# EAGLE library part CINVESTAV_ATMEGA328 (library ijrobotics)
Atmega328 13 Entradas Digitales 7 Entradas Análogicas 6 PWM
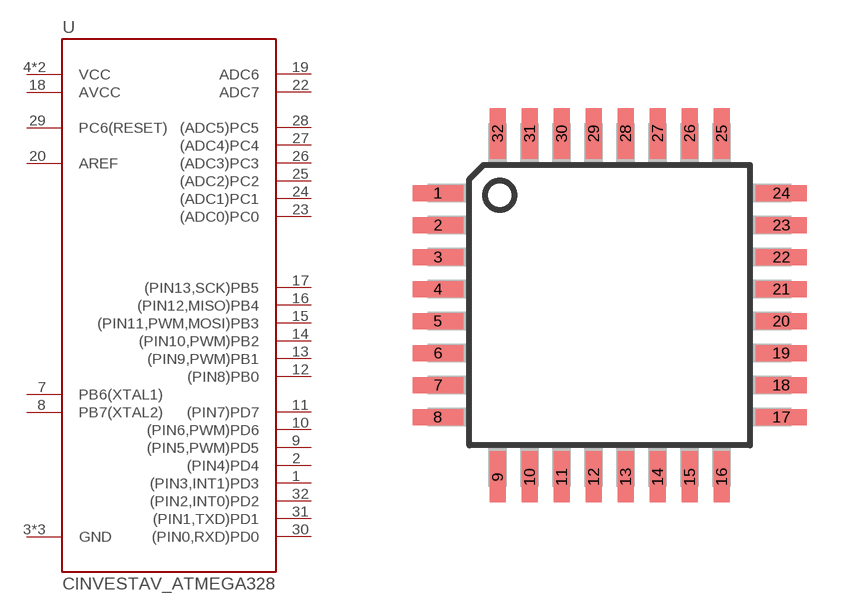
[diagram p14: symbol with the pads of CINVESTAV_TQFP32-08; footprint CINVESTAV_TQFP32-08]

Designator prefix -

## CINVESTAV_ATMEGA328  [CINVESTAV_TQFP32-08]
1  (PIN3,INT1)PD3
2  (PIN4)PD4
3  GND  pwr
4  VCC  pwr
5  GND  pwr
6  VCC  pwr
7  PB6(XTAL1)
8  PB7(XTAL2)
9  (PIN5,PWM)PD5
10  (PIN6,PWM)PD6
11  (PIN7)PD7
12  (PIN8)PB0
13  (PIN9,PWM)PB1
14  (PIN10,PWM)PB2
15  (PIN11,PWM,MOSI)PB3
16  (PIN12,MISO)PB4
17  (PIN13,SCK)PB5
18  AVCC  pwr
19  ADC6
20  AREF  pas
21  GND  pwr
22  ADC7
23  (ADC0)PC0
24  (ADC1)PC1
25  (ADC2)PC2
26  (ADC3)PC3
27  (ADC4)PC4
28  (ADC5)PC5
29  PC6(RESET)
30  (PIN0,RXD)PD0
31  (PIN1,TXD)PD1
32  (PIN2,INT0)PD2

## Footprint CINVESTAV_TQFP32-08 (pad centres in mm)
Thin Plasic Quad Flat Package Grid 0.8 mm
smd 1.27 x 0.4: 1 -4.293,2.8; 2 -4.293,2; 3 -4.293,1.2; 4 -4.293,0.4; 5 -4.293,-0.4; 6 -4.293,-1.2; 7 -4.293,-2; 8 -4.293,-2.8; 17 4.293,-2.8; 18 4.293,-2; 19 4.293,-1.2; 20 4.293,-0.4; 21 4.293,0.4; 22 4.293,1.2; 23 4.293,2; 24 4.293,2.8
smd 0.4 x 1.27: 9 -2.8,-4.293; 10 -2,-4.293; 11 -1.2,-4.293; 12 -0.4,-4.293; 13 0.4,-4.293; 14 1.2,-4.293; 15 2,-4.293; 16 2.8,-4.293; 25 2.8,4.293; 26 2,4.293; 27 1.2,4.293; 28 0.4,4.293; 29 -0.4,4.293; 30 -1.2,4.293; 31 -2,4.293; 32 -2.8,4.293